# Altium integrated library Actel ProASIC3.IntLib: 465 symbols (part 24 of 68)
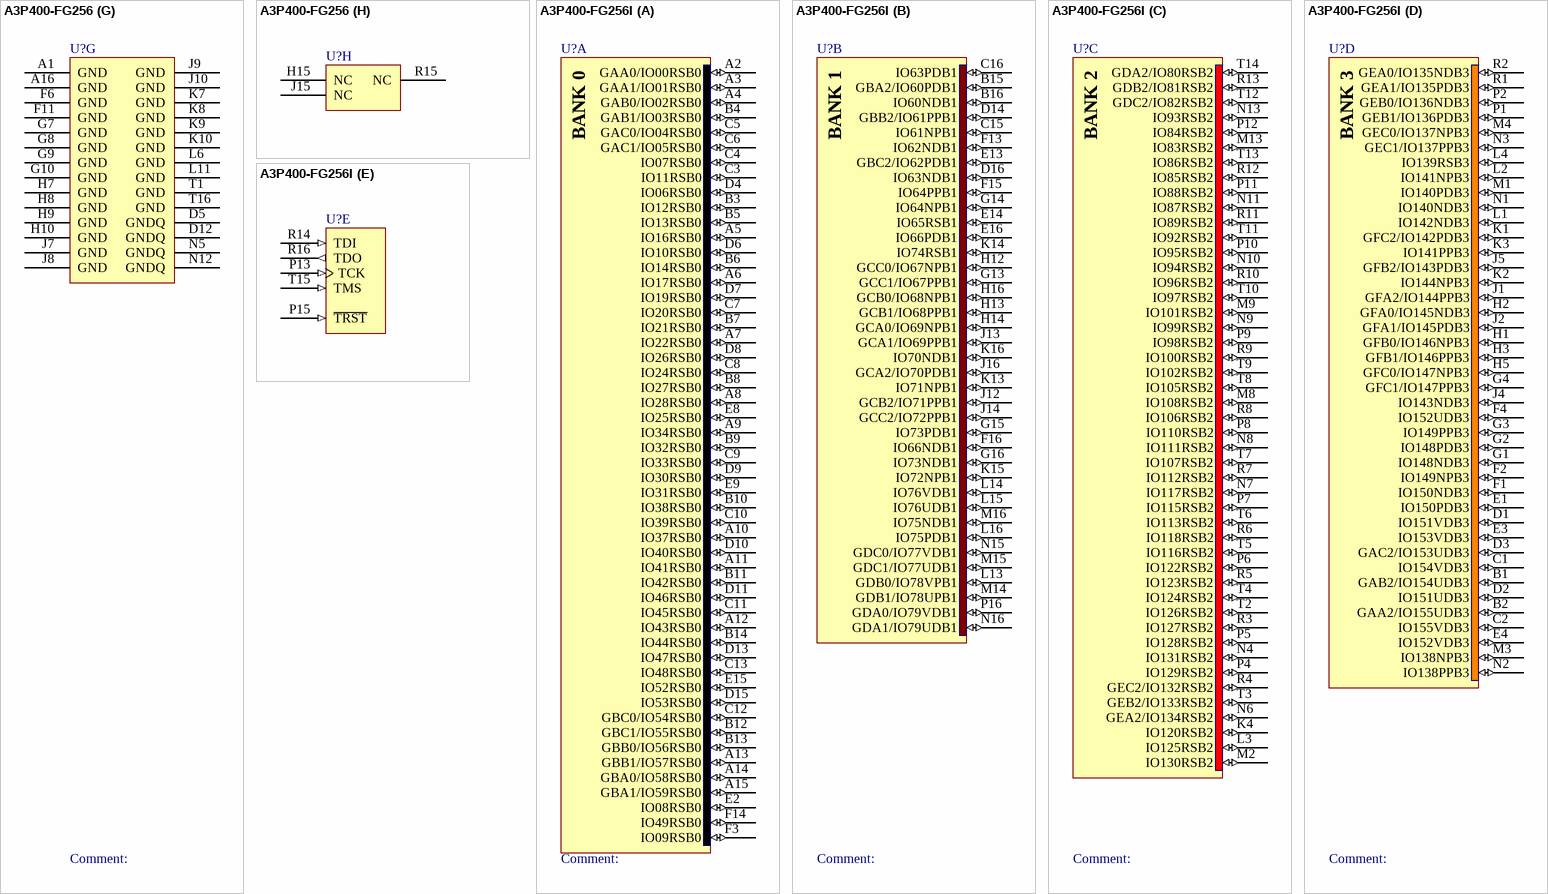
[diagram p435: symbols A3P400-FG256 to A3P400-FG256I]

## A3P400-FG256
designator U?
ProASIC3 Flash Family FPGA, 178 User IOs, 400K System Gates, 54 Kbits RAM, 1 Kbit Flash ROM, 1 PLL, 256-Ball FBGA, Commercial Grade; DatasheetVersion: v1.3, Oct-2009; PackageVersion: rev39, Aug-2010; PackageReference: FG256; PackageDescription: 256-Ball Fine Pitch Plastic Ball Grid Array 1.00 mm Pitch (FG256); Code_JEDEC: MO-192-DAF-1; ComponentLink1Description: Manufacturer URL; ComponentLink1URL: http://www.actel.com/; ComponentLink2Description: ProASIC3 Datasheet; ComponentLink2URL: http://www.actel.com/documents/PA3_DS.pdf; ComponentLink3Description: Package Mechanical Drawings; ComponentLink3URL: http://www.actel.com/documents/PckgMechDrwngs.pdf; ComponentLink4Description: ProASIC3 Documents; ComponentLink4URL: http://www.actel.com/products/pa3/docs.aspx
footprint FG256 (BGA, 256-Leads, Body 17x17mm, Pitch 1mm)
part A pins: A2 GAA0/IO00RSB0 (io), A3 GAA1/IO01RSB0 (io), A4 GAB0/IO02RSB0 (io), A5 IO16RSB0 (io), A6 IO17RSB0 (io), A7 IO22RSB0 (io), A8 IO28RSB0 (io), A9 IO34RSB0 (io), A10 IO37RSB0 (io), A11 IO41RSB0 (io), A12 IO43RSB0 (io), A13 GBB1/IO57RSB0 (io), A14 GBA0/IO58RSB0 (io), A15 GBA1/IO59RSB0 (io), B3 IO12RSB0 (io), B4 GAB1/IO03RSB0 (io), B5 IO13RSB0 (io), B6 IO14RSB0 (io), B7 IO21RSB0 (io), B8 IO27RSB0 (io), B9 IO32RSB0 (io), B10 IO38RSB0 (io), B11 IO42RSB0 (io), B12 GBC1/IO55RSB0 (io), B13 GBB0/IO56RSB0 (io), B14 IO44RSB0 (io), C3 IO11RSB0 (io), C4 IO07RSB0 (io), C5 GAC0/IO04RSB0 (io), C6 GAC1/IO05RSB0 (io), C7 IO20RSB0 (io), C8 IO24RSB0 (io), C9 IO33RSB0 (io), C10 IO39RSB0 (io), C11 IO45RSB0 (io), C12 GBC0/IO54RSB0 (io), C13 IO48RSB0 (io), D4 IO06RSB0 (io), D6 IO10RSB0 (io), D7 IO19RSB0 (io), D8 IO26RSB0 (io), D9 IO30RSB0 (io), D10 IO40RSB0 (io), D11 IO46RSB0 (io), D13 IO47RSB0 (io), D15 IO53RSB0 (io), E2 IO08RSB0 (io), E8 IO25RSB0 (io), E9 IO31RSB0 (io), E15 IO52RSB0 (io), F3 IO09RSB0 (io), F14 IO49RSB0 (io)
part B pins: B15 GBA2/IO60PDB1 (io), B16 IO60NDB1 (io), C15 IO61NPB1 (io), C16 IO63PDB1 (io), D14 GBB2/IO61PPB1 (io), D16 IO63NDB1 (io), E13 GBC2/IO62PDB1 (io), E14 IO65RSB1 (io), E16 IO66PDB1 (io), F13 IO62NDB1 (io), F15 IO64PPB1 (io), F16 IO66NDB1 (io), G13 GCC1/IO67PPB1 (io), G14 IO64NPB1 (io), G15 IO73PDB1 (io), G16 IO73NDB1 (io), H12 GCC0/IO67NPB1 (io), H13 GCB1/IO68PPB1 (io), H14 GCA0/IO69NPB1 (io), H16 GCB0/IO68NPB1 (io), J12 GCB2/IO71PPB1 (io), J13 GCA1/IO69PPB1 (io), J14 GCC2/IO72PPB1 (io), J16 GCA2/IO70PDB1 (io), K13 IO71NPB1 (io), K14 IO74RSB1 (io), K15 IO72NPB1 (io), K16 IO70NDB1 (io), L13 GDB0/IO78VPB1 (io), L14 IO76VDB1 (io), L15 IO76UDB1 (io), L16 IO75PDB1 (io), M14 GDB1/IO78UPB1 (io), M15 GDC1/IO77UDB1 (io), M16 IO75NDB1 (io), N15 GDC0/IO77VDB1 (io), N16 GDA1/IO79UDB1 (io), P16 GDA0/IO79VDB1 (io)
part C pins: K4 IO120RSB2 (io), L3 IO125RSB2 (io), M2 IO130RSB2 (io), M8 IO108RSB2 (io), M9 IO101RSB2 (io), M13 IO83RSB2 (io), N4 IO131RSB2 (io), N6 GEA2/IO134RSB2 (io), N7 IO117RSB2 (io), N8 IO111RSB2 (io), N9 IO99RSB2 (io), N10 IO94RSB2 (io), N11 IO87RSB2 (io), N13 IO93RSB2 (io), P4 IO129RSB2 (io), P5 IO128RSB2 (io), P6 IO122RSB2 (io), P7 IO115RSB2 (io), P8 IO110RSB2 (io), P9 IO98RSB2 (io), P10 IO95RSB2 (io), P11 IO88RSB2 (io), P12 IO84RSB2 (io), R3 IO127RSB2 (io), R4 GEC2/IO132RSB2 (io), R5 IO123RSB2 (io), R6 IO118RSB2 (io), R7 IO112RSB2 (io), R8 IO106RSB2 (io), R9 IO100RSB2 (io), R10 IO96RSB2 (io), R11 IO89RSB2 (io), R12 IO85RSB2 (io), R13 GDB2/IO81RSB2 (io), T2 IO126RSB2 (io), T3 GEB2/IO133RSB2 (io), T4 IO124RSB2 (io), T5 IO116RSB2 (io), T6 IO113RSB2 (io), T7 IO107RSB2 (io), T8 IO105RSB2 (io), T9 IO102RSB2 (io), T10 IO97RSB2 (io), T11 IO92RSB2 (io), T12 GDC2/IO82RSB2 (io), T13 IO86RSB2 (io), T14 GDA2/IO80RSB2 (io)
part D pins: B1 GAB2/IO154UDB3 (io), B2 GAA2/IO155UDB3 (io), C1 IO154VDB3 (io), C2 IO155VDB3 (io), D1 IO151VDB3 (io), D2 IO151UDB3 (io), D3 GAC2/IO153UDB3 (io), E1 IO150PDB3 (io), E3 IO153VDB3 (io), E4 IO152VDB3 (io), F1 IO150NDB3 (io), F2 IO149NPB3 (io), F4 IO152UDB3 (io), G1 IO148NDB3 (io), G2 IO148PDB3 (io), G3 IO149PPB3 (io), G4 GFC1/IO147PPB3 (io), H1 GFB0/IO146NPB3 (io), H2 GFA0/IO145NDB3 (io), H3 GFB1/IO146PPB3 (io), H5 GFC0/IO147NPB3 (io), J1 GFA2/IO144PPB3 (io), J2 GFA1/IO145PDB3 (io), J4 IO143NDB3 (io), J5 GFB2/IO143PDB3 (io), K1 GFC2/IO142PDB3 (io), K2 IO144NPB3 (io), K3 IO141PPB3 (io), L1 IO142NDB3 (io), L2 IO141NPB3 (io), L4 IO139RSB3 (io), M1 IO140PDB3 (io), M3 IO138NPB3 (io), M4 GEC0/IO137NPB3 (io), N1 IO140NDB3 (io), N2 IO138PPB3 (io), N3 GEC1/IO137PPB3 (io), P1 GEB1/IO136PDB3 (io), P2 GEB0/IO136NDB3 (io), R1 GEA1/IO135PDB3 (io), R2 GEA0/IO135NDB3 (io)
part E pins: P13 TCK (in), P15 ~{TRST} (in), R14 TDI (in), R16 TDO (out), T15 TMS (in)
part F pins: C14 VMV0 (power), E5 VMV0 (power), E6 VCCIB0 (power), E7 VCCIB0 (power), E10 VCCIB0 (power), E11 VCCIB0 (power), E12 VMV1 (power), F5 VCCIB3 (power), F7 VCC (power), F8 VCC (power), F9 VCC (power), F10 VCC (power), F12 VCCIB1 (power), G5 VCCIB3 (power), G6 VCC (power), G11 VCC (power), G12 VCCIB1 (power), H4 VCOMPLF (power), H6 VCC (power), H11 VCC (power), J3 VCCPLF (power), J6 VCC (power), J11 VCC (power), K5 VCCIB3 (power), K6 VCC (power), K11 VCC (power), K12 VCCIB1 (power), L5 VCCIB3 (power), L7 VCC (power), L8 VCC (power), L9 VCC (power), L10 VCC (power), L12 VCCIB1 (power), M5 VMV3 (power), M6 VCCIB2 (power), M7 VCCIB2 (power), M10 VCCIB2 (power), M11 VCCIB2 (power), M12 VMV2 (power), N14 VJTAG (power), P3 VMV2 (power), P14 VPUMP (power)
part G pins: A1 GND (power), A16 GND (power), D5 GNDQ (power), D12 GNDQ (power), F6 GND (power), F11 GND (power), G7 GND (power), G8 GND (power), G9 GND (power), G10 GND (power), H7 GND (power), H8 GND (power), H9 GND (power), H10 GND (power), J7 GND (power), J8 GND (power), J9 GND (power), J10 GND (power), K7 GND (power), K8 GND (power), K9 GND (power), K10 GND (power), L6 GND (power), L11 GND (power), N5 GNDQ (power), N12 GNDQ (power), T1 GND (power), T16 GND (power)
part H pins: H15 NC, J15 NC, R15 NC
part A text: BANK 0
part B text: BANK 1
part C text: BANK 2
part D text: BANK 3

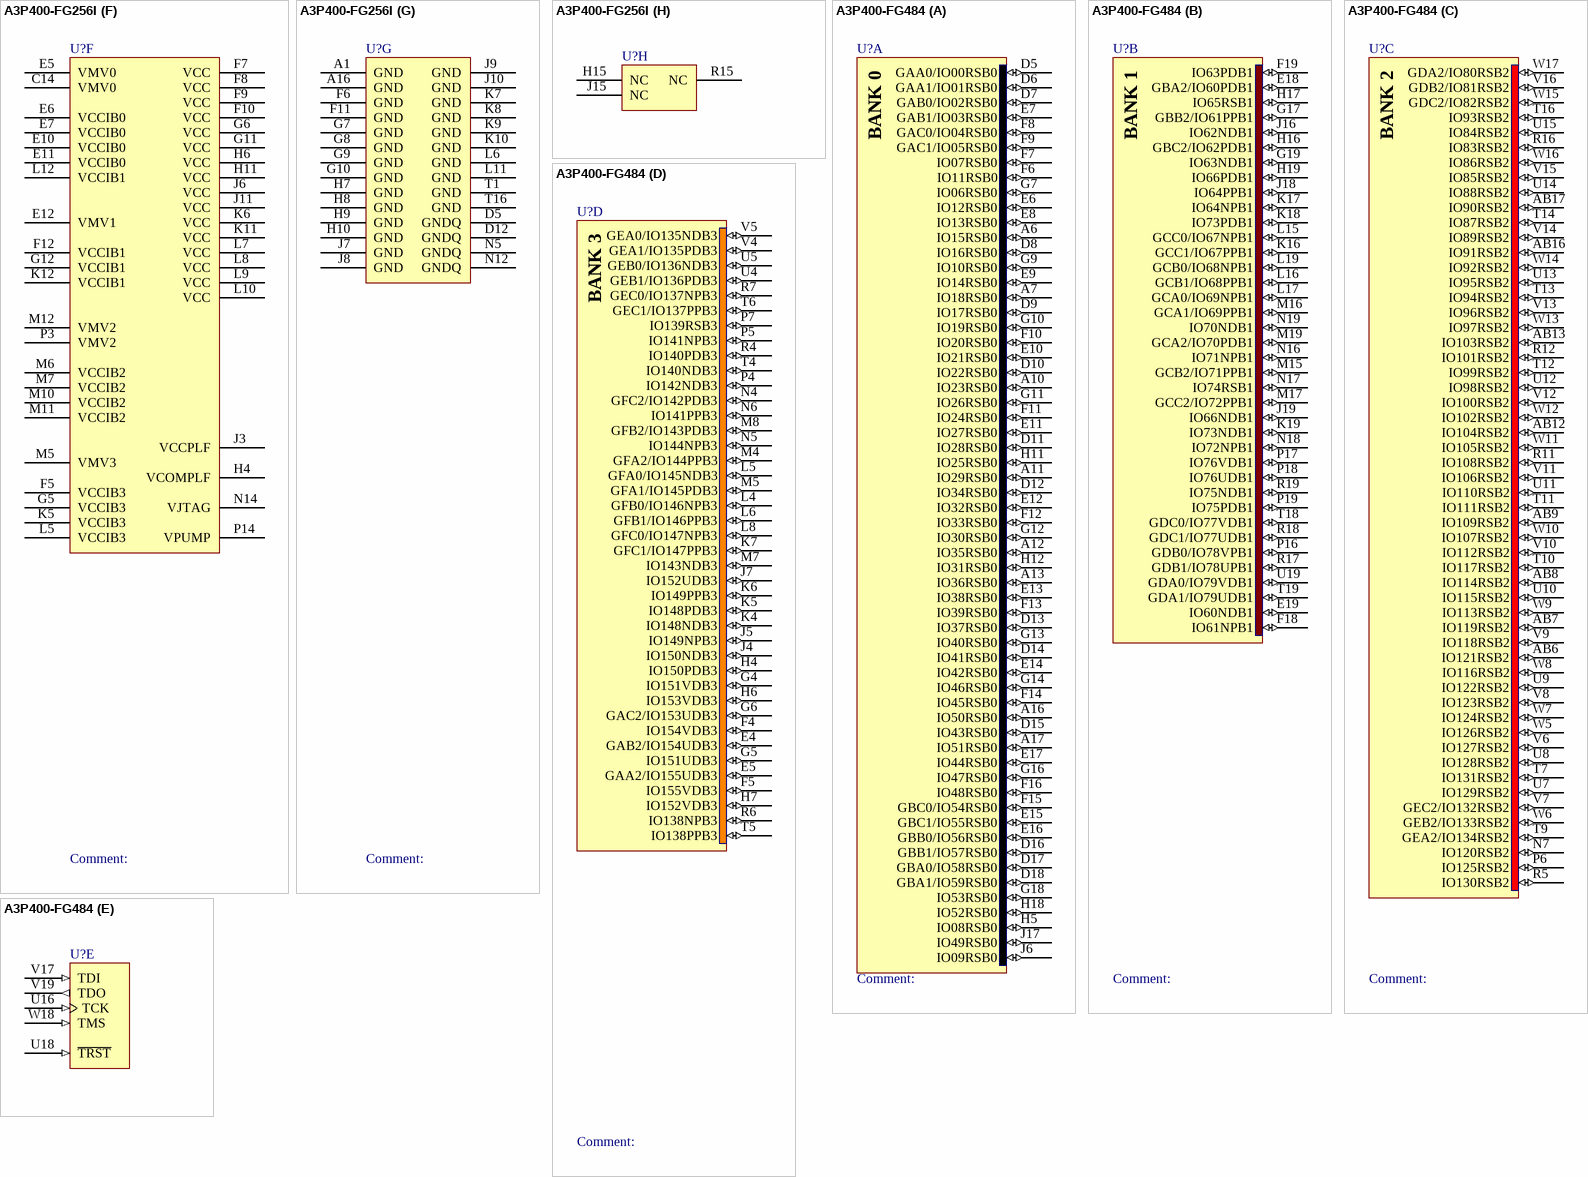
[diagram p102: symbols A3P400-FG256I to A3P400-FG484]